# Altium integrated library Sensors Motion.IntLib: 7 symbols
Pins are listed as number, name and electrical type; pins without a type are passive.

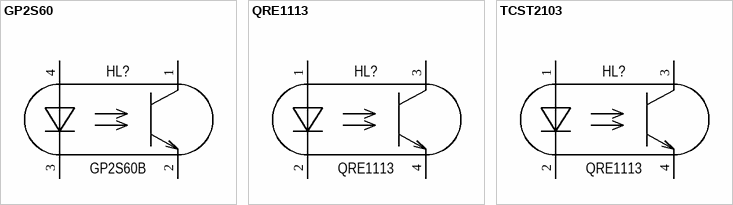
[diagram p0: symbols GP2S60 to TCST2103]

## GP2S60
designator HL?, comment GP2S60B
Photointerrupter Reflective; Manufacturer: Sharp Microelectronics; Group: Optical Sensors - Reflective; Part name: GP2S60B; Package: GP2S60
footprint GP2S60 (Compact Reflective  Photointerrupter, Body 3.2x1.7mm)
pins: 1 Collector "Cathode", 2 Emitter "Cathode", 3 Cathode, 4 Anode

## QRE1113
designator HL?
Photointerrupter Reflective; Manufacturer: Fairchild Semiconductor; Group: Optical Sensors - Reflective; Part name: QRE1113; Package: QRE1113
footprint QRE1113 (Compact Reflective  Photointerrupter, Body 3.4x2.8mm)
pins: 1 Anode, 2 Cathode, 3 Collector "Cathode", 4 Emitter "Cathode"

## TCST2103
designator HL?, comment QRE1113
Photointerrupter Barrier; Manufacturer: Fairchild Semiconductor; Group: Optical Sensors - Reflective; Part name: QRE1113; Package: QRE1113
footprint 214A67
pins: 1 Anode, 2 Cathode, 3 Collector "Cathode", 4 Emitter "Cathode"


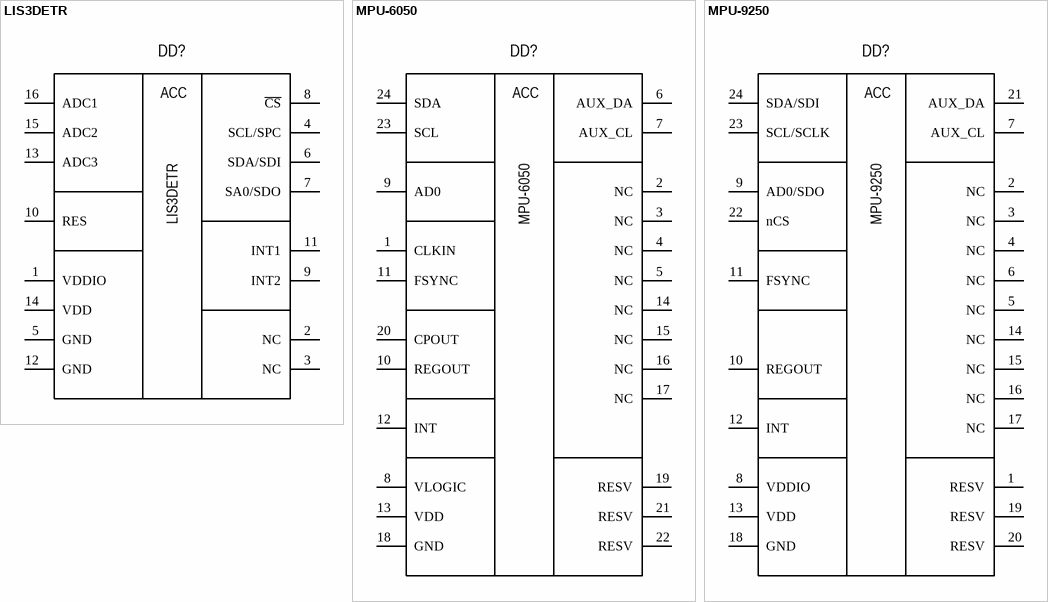
[diagram p1: symbols LIS3DETR to MPU-9250]

## LIS3DETR
designator DD?
MEMS Accelerometer; Manufacturer: STMicroelectronics; Group: Motion Sensors; Package: VFLGA-16; Part name: LIS3DETR; Operating Temperature: -40°C +85°C; Dimension: 3.00mm x 3.00mm; Thickness: 1.00mm
footprint LGA-16 (LGA package 3x3x0.9mm)
pins: 1 VDDIO "Power supply for I/O pins", 2 NC "Not connected", 3 NC "Not connected", 4 SCL/SPC "I2C serial clock (SCL)  / SPI serial port clock (SPC)", 5 GND "0 V supply", 6 SDA/SDI "I2C serial data (SDA)  / SPI serial data input (SDI)  / 3-wire interface serial data output (SDO", 7 SA0/SDO "SPI serial data output (SDO)  /  I2C least significant bit of the device address (SA0)", 8 ~{CS} "SPI enable  I  2C/SPI mode selection (1: SPI idle mode / I2C communication  enabled; 0: SPI communication mode / I2C disabled)", 9 INT2 "Interrupt 2", 10 RES "Connect to GND", 11 INT1 "Interrupt 1", 12 GND "0 V supply", 13 ADC3 "Analog-to-digital converter input 3", 14 VDD "Power supply", 15 ADC2 "Analog-to-digital converter input 2", 16 ADC1 "Analog-to-digital converter input 1"
text: ACC

## MPU-6050
designator DD?
MEMS Acc+Gyr; Manufacturer: TDK InvenSence; Group: Motion Sensors; Package: QFN-24 (4x4mm); Part name: MPU-6050; Operating Temperature: -40°C +85°C; Dimension: 4.00mm x 4.00mm; Thickness: 0.90mm
footprint MPU6050 (LGA package 4x4x0.9mm)
pins: 1 CLKIN, 2 NC, 3 NC, 4 NC, 5 NC, 6 AUX_DA, 7 AUX_CL, 8 VLOGIC, 9 AD0, 10 REGOUT, 11 FSYNC, 12 INT, 13 VDD, 14 NC, 15 NC, 16 NC, 17 NC, 18 GND, 19 RESV, 20 CPOUT, 21 RESV, 22 RESV, 23 SCL, 24 SDA
text: ACC

## MPU-9250
designator DD?
MEMS Acc+Gyro+Mag; Manufacturer: TDK InvenSence; Group: Motion Sensors; Package: QFN-24 (3x3mm); Part name: MPU-9250; Operating Temperature: -40°C +85°C; Dimension: 3.00mm x 3.00mm; Thickness: 1.00mm
footprint MPU9250 (LGA package 3x3x1mm)
pins: 1 RESV, 2 NC, 3 NC, 4 NC, 5 NC, 6 NC, 7 AUX_CL, 8 VDDIO, 9 AD0/SDO, 10 REGOUT, 11 FSYNC, 12 INT, 13 VDD, 14 NC, 15 NC, 16 NC, 17 NC, 18 GND, 19 RESV, 20 RESV, 21 AUX_DA, 22 nCS, 23 SCL/SCLK, 24 SDA/SDI
text: ACC


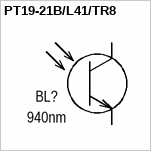
[diagram p2: symbol PT19-21B/L41/TR8]

## PT19-21B/L41/TR8
designator BL?, comment 940nm
IR Phototransistor; Manufacturer: Everlight Electronics; Part name: PT19-21B/L41/TR8; Group: Phototransistors; Package: 1608; Wavelength: 940nm
footprint PT1608N (IR ptototransistor, Body 1.6x0.8mm)
pins: 1 Emitter "Cathode", 2 Collector "Cathode"